# EAGLE library part RELAY_SMD (library common)
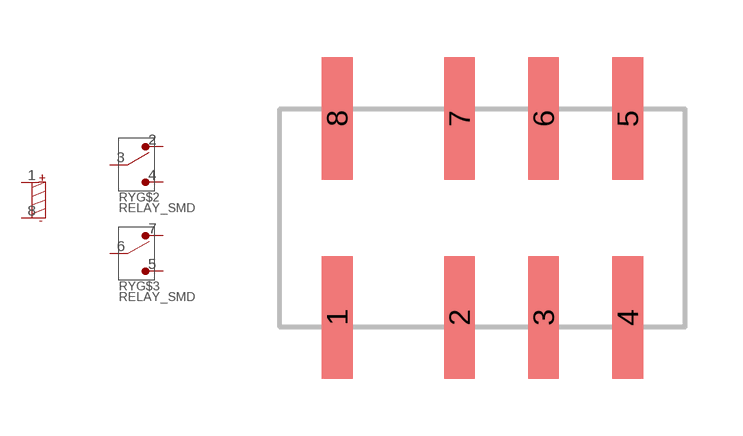
[diagram p38: symbol with the pads of G6J-2FL-Y; footprint G6J-2FL-Y]

Designator prefix RY; gates G$1=RELAY_COIL G$2=SPDT G$3=SPDT

## RELAY_SMD  [G6J-2FL-Y]
1  G$1:COIL_+
2  G$2:T1
3  G$2:D
4  G$2:T2
5  G$3:T2
6  G$3:D
7  G$3:T1
8  G$1:COIL_-

## Footprint G6J-2FL-Y (pad centres in mm)
smd 0.8 x 3.2: 1 -3.2,-2.6; 2 0,-2.6; 3 2.2,-2.6; 4 4.4,-2.6; 5 4.4,2.6; 6 2.2,2.6; 7 0,2.6; 8 -3.2,2.6